# Altium schematic symbol library Y1.SchLib: 10 symbols
Pins are listed as number, name and electrical type; pins without a type are passive.

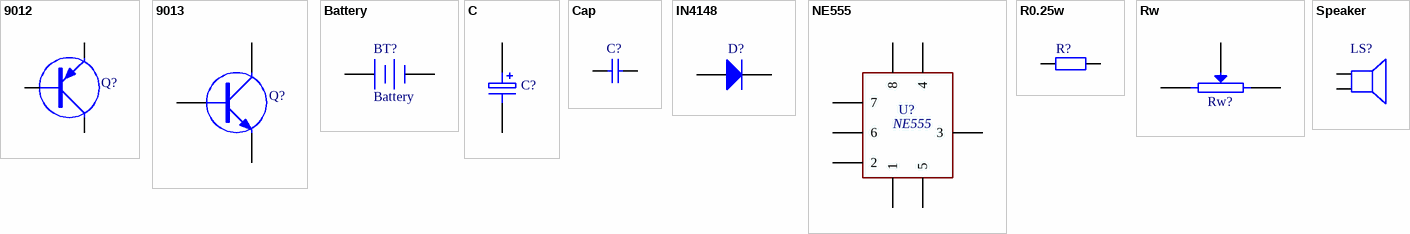
[diagram p0: symbols 9012 to Speaker]

## 9012
designator Q?  (value not drawn)
footprint TO-126-D (72*100mil)
pins: 1 E, 2 B, 3 C

## 9013
designator Q?  (value not drawn)
NPN Transistor
footprint TO-126-D (72*100mil)
pins: 1 E, 2 B, 3 C

## Battery
designator BT?
Multicell Battery; Published: 24-Mar-1999; LatestRevisionDate: 17-Jul-2002; LatestRevisionNote: Re-released for DXP Platform.; PackageReference: BAT-2; Publisher: Altium Limited
footprint BAT-2-D (power; 2 Leads; 120*120mil)
pins: 1 +, 2 -

## C
designator C?  (value not drawn)
Electrolytic Capacitor
footprint RAD-0.1-D (Capacitor, Electrolytic, Radial; 72*100mil)
pins: 1, 2

## Cap
designator C?  (value not drawn)
Capacitor; Value: 100pF; Published: 8-Jun-2000; LatestRevisionDate: 17-Jul-2002; LatestRevisionNote: Re-released for DXP Platform.; PackageReference: RAD-0.3; Publisher: Altium Limited
footprint RAD-0.2-D (Jumper Wire; 2 Leads; 100*100mil)
footprint VP32-3.2 (Capacitor, Ceramic, Thru-Hole, Dipped Radial; Body 5.1 x 3.2 mm (WxT) Pin Spacing 2.54 mm (typ))
footprint VP45-3.2 (Capacitor, Ceramic, Thru-Hole, Dipped Radial; Body 7.8 x 3.2 mm (WxT) Pin Spacing 5.08 mm (typ))
simulation model CAP (Capacitor)
signal-integrity model Cap
pins: 1, 2

## IN4148
designator D?  (value not drawn)
Default Diode; Published: 8-Jun-2000; LatestRevisionDate: 17-Jul-2002; LatestRevisionNote: Re-released for DXP Platform.; PackageDocument: Sep-1996; PackageReference: SMC; Publisher: Altium Limited; Code_JEDEC: DO-214-AB
footprint DIODE-0.3-D (Resistor; 2 Leads; 100*100mil)
simulation model DIODE (Diode)
signal-integrity model Diode
pins: 1 A, 2 K

## NE555
designator U?, comment 555  (value not drawn)
footprint DIP-8-D (DIP; 8 Leads; 100*72mil)
pins: 1, 2, 3, 4, 5, 6, 7, 8

## R0.25w
designator R?  (value not drawn)
Resistor; Value: 1K; Published: 8-Jun-2000; LatestRevisionDate: 17-Jul-2002; LatestRevisionNote: Re-released for DXP Platform.; PackageReference: AXIAL-0.4; Publisher: Altium Limited
footprint AXIAL-0.4-D (Resistor; 2 Leads; 100*100mil)
simulation model RESISTOR (Resistor)
signal-integrity model Res
pins: 1, 2

## Rw
designator Rw?  (value not drawn)
Potentiometer
footprint VR6-D (120*120mil)
pins: 1, 2, 3

## Speaker
designator LS?  (value not drawn)
Loudspeaker; Published: 24-Mar-1999; LatestRevisionDate: 17-Jul-2002; LatestRevisionNote: Re-released for DXP Platform.; PackageReference: PIN2; Publisher: Altium Limited
footprint SPEAKER-D (Circuit Breaker; 2 Leads; 120*120mil)
pins: 1, 2